# Altium schematic symbol library Sensor_Motion.SchLib: 29 symbols
Pins are listed as number, name and electrical type; pins without a type are passive.

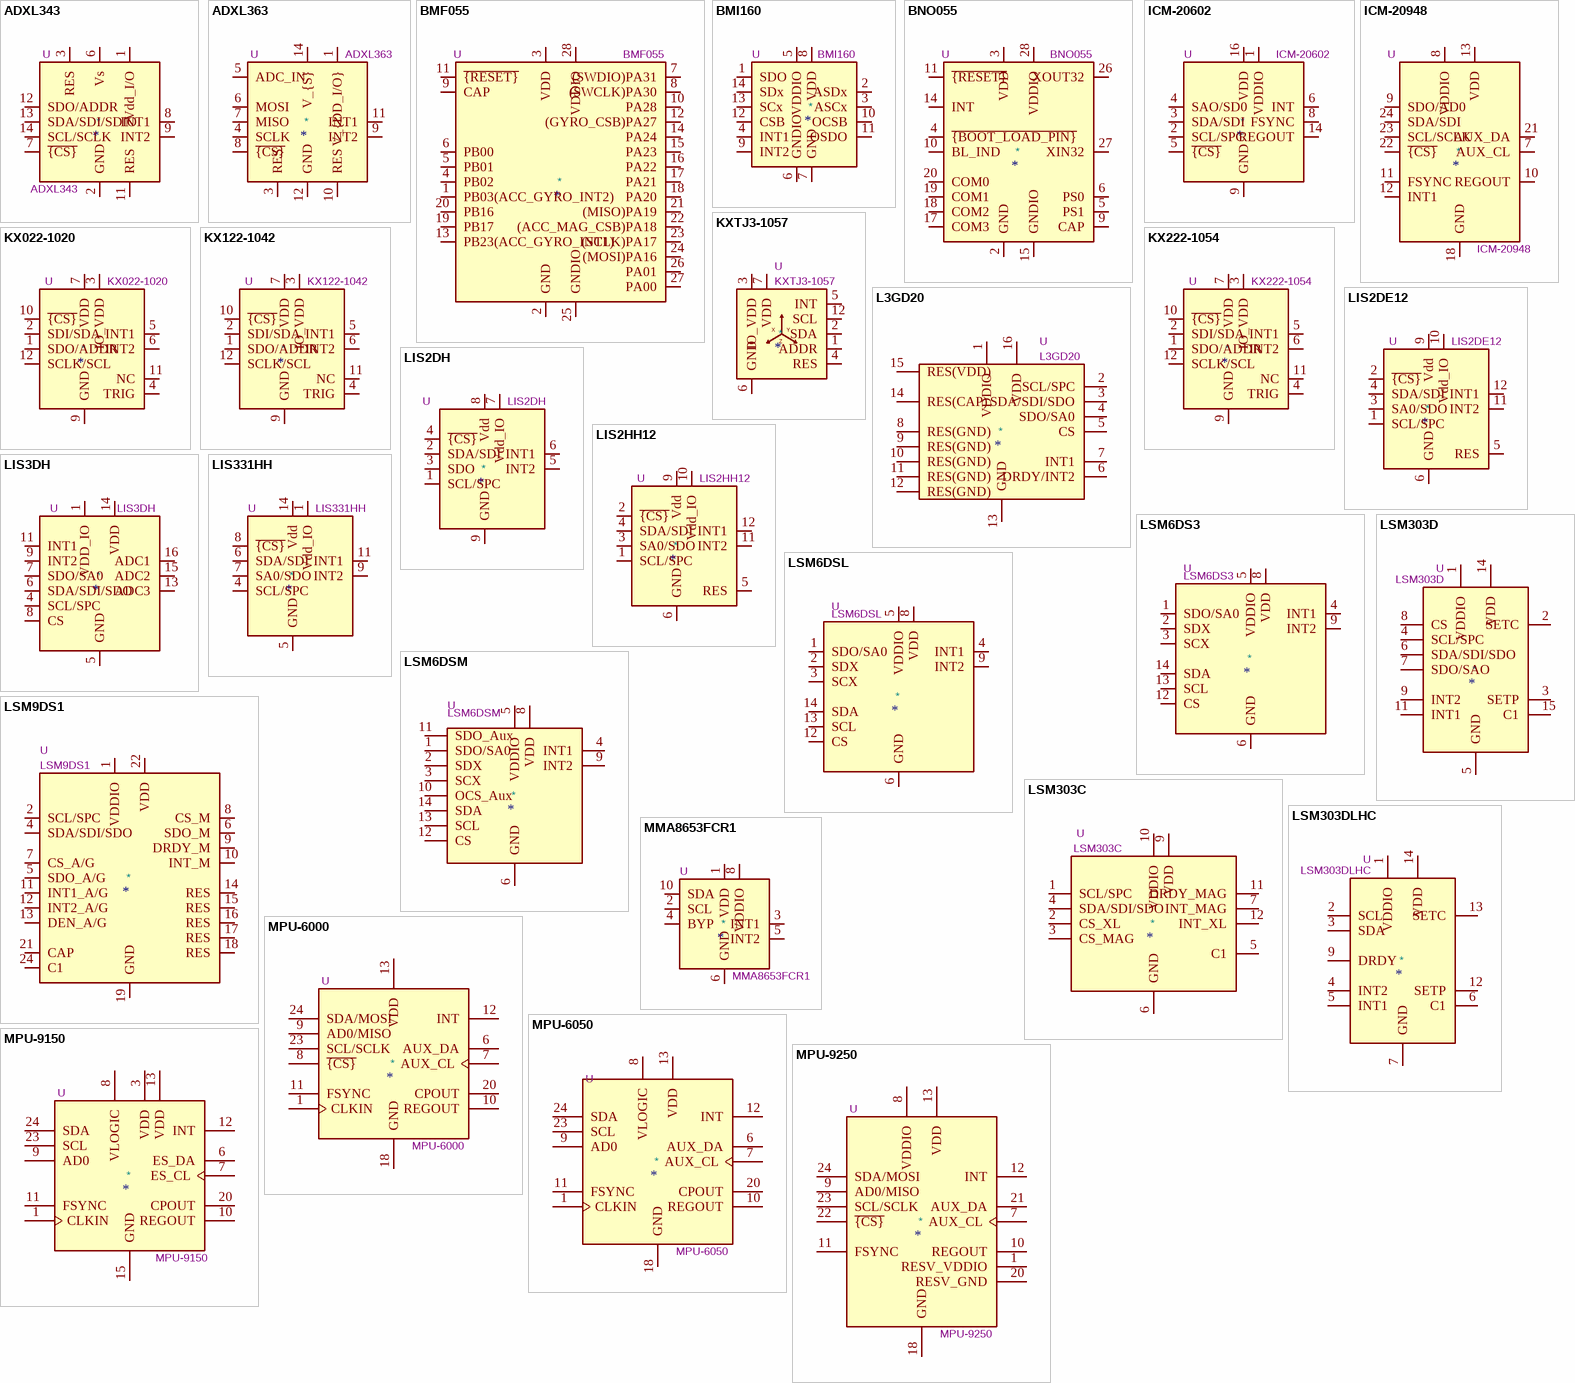
[diagram p0: symbols ADXL343 to MPU-9250]

## ADXL343
designator *  value ADXL343  Reference: U
ki_keywords: 3-axis accelerometer i2c spi mems; ki_description: 3-Axis MEMS Accelerometer, 2/4/8/16g range, I2C/SPI, LGA-14; ki_fp_filters: *LGA*3x5mm*P0.8mm*; Footprint: Package_LGA:LGA-14_3x5mm_P0.8mm_LayoutBorder1x6y; Datasheet: https://www.analog.com/media/en/technical-documentation/data-sheets/ADXL343.pdf
pins: 1 Vdd_I/O, 2 GND, 3 RES, 4 GND hidden, 5 GND hidden, 6 Vs, 7 ~{{CS}}, 8 INT1, 9 INT2, 10 NC hidden, 11 RES, 12 SDO/ADDR, 13 SDA/SDI/SDIO, 14 SCL/SCLK

## ADXL363
designator *  value ADXL363  Reference: U
ki_keywords: 3-axis accelerometer spi mems thermometer; ki_description: Micropower 3-Axis Accelerometer, Thermometer, 2/4/8g range, SPI, LGA-16; ki_fp_filters: *LGA?16*3.25x3mm*P0.5mm*LayoutBorder3x5y*; Footprint: Sensor_Motion:Analog_LGA-16_3.25x3mm_P0.5mm_LayoutBorder3x5y; Datasheet: https://www.analog.com/media/en/technical-documentation/data-sheets/ADXL363.pdf
pins: 1 V_{DD_I/O}, 3 RES, 4 SCLK, 5 ADC_IN, 6 MOSI, 7 MISO, 8 ~{{CS}}, 9 INT2, 10 RES, 11 INT1, 12 GND, 13 GND hidden, 14 V_{S}, 16 GND hidden

## BMF055
designator *  value BMF055  Reference: U
ki_keywords: 9-axis motion sensor IMU SAMD20 ARM Cortex-M0+; ki_description: Custom programmable 9-axis motion sensor; ki_fp_filters: LGA*5.2x3.8mm*P0.5mm*; Footprint: Package_LGA:LGA-28_5.2x3.8mm_P0.5mm; Datasheet: https://www.bosch-sensortec.com/media/boschsensortec/downloads/datasheets/bst-bmf055-ds000.pdf
pins: 1 PB03(ACC_GYRO_INT2), 2 GND, 3 VDD, 4 PB02, 5 PB01, 6 PB00, 7 (SWDIO)PA31, 8 (SWCLK)PA30, 9 CAP, 10 PA28, 11 ~{{RESET}}, 12 (GYRO_CSB)PA27, 13 PB23(ACC_GYRO_INT1), 14 PA24, 15 PA23, 16 PA22, 17 PA21, 18 PA20, 19 PB17, 20 PB16, 21 (MISO)PA19, 22 (ACC_MAG_CSB)PA18, 23 (SCLK)PA17, 24 (MOSI)PA16, 25 GNDIO, 26 PA01, 27 PA00, 28 VDDIO

## BMI160
designator *  value BMI160  Reference: U
ki_keywords: Bosh IMU small low power inertial measurement unit; ki_description: Small, low power inertial measurement unit, LGA-14; ki_fp_filters: Bosch*LGA*3x2.5mm*P0.5mm*; Footprint: Package_LGA:Bosch_LGA-14_3x2.5mm_P0.5mm; Datasheet: https://www.bosch-sensortec.com/media/boschsensortec/downloads/datasheets/bst-bmi160-ds000.pdf
pins: 1 SDO, 2 ASDx, 3 ASCx, 4 INT1, 5 VDDIO, 6 GNDIO, 7 GND, 8 VDD, 9 INT2, 10 OCSB, 11 OSDO, 12 CSB, 13 SCx, 14 SDx

## BNO055
designator *  value BNO055  Reference: U
ki_keywords: IMU Sensor Fusion I2C UART; ki_description: Intelligent 9-axis absolute orientation sensor, LGA-28; ki_fp_filters: LGA*5.2x3.8mm*P0.5mm*; Footprint: Package_LGA:LGA-28_5.2x3.8mm_P0.5mm; Datasheet: https://www.bosch-sensortec.com/media/boschsensortec/downloads/datasheets/bst-bno055-ds000.pdf
pins: 1 PIN1 hidden, 2 GND, 3 VDD, 4 ~{{BOOT_LOAD_PIN}}, 5 PS1, 6 PS0, 7 PIN7 hidden, 8 PIN8 hidden, 9 CAP, 10 BL_IND, 11 ~{{RESET}}, 12 PIN12 hidden, 13 PIN13 hidden, 14 INT, 15 GNDIO, 16 GNDIO hidden, 17 COM3, 18 COM2, 19 COM1, 20 COM0, 21 PIN21 hidden, 22 PIN22 hidden, 23 PIN23 hidden, 24 PIN24 hidden, 25 GNDIO hidden, 26 XOUT32, 27 XIN32, 28 VDDIO

## ICM-20602
designator *  value ICM-20602  Reference: U
ki_keywords: accelerometer gyro mems motion; ki_description: High performance 6-Axis MEMS motion tracking, SPI/I2C interface, LGA-16; ki_fp_filters: LGA*3x3mm*P0.5mm*; Footprint: Package_LGA:LGA-16_3x3mm_P0.5mm_LayoutBorder3x5y; Datasheet: http://www.invensense.com/wp-content/uploads/2016/10/DS-000176-ICM-20602-v1.0.pdf
pins: 1 VDDIO, 2 SCL/SPC, 3 SDA/SDI, 4 SAO/SD0, 5 ~{{CS}}, 6 INT, 7 RESV hidden, 8 FSYNC, 9 GND, 10 GND hidden, 11 GND hidden, 12 GND hidden, 13 GND hidden, 14 REGOUT, 15 GND hidden, 16 VDD

## ICM-20948
designator *  value ICM-20948  Reference: U
ki_keywords: mems magnetometer; ki_description: InvenSense 9-Axis Motion Sensor, Accelerometer, Gyroscope, Compass, I2C/SPI, QFN-24; ki_fp_filters: InvenSense?QFN*3x3mm*P0.4mm*; Footprint: Sensor_Motion:InvenSense_QFN-24_3x3mm_P0.4mm; Datasheet: http://www.invensense.com/wp-content/uploads/2016/06/DS-000189-ICM-20948-v1.3.pdf
pins: 1 NC hidden, 2 NC hidden, 3 NC hidden, 4 NC hidden, 5 NC hidden, 6 NC hidden, 7 AUX_CL, 8 VDDIO, 9 SDO/AD0, 10 REGOUT, 11 FSYNC, 12 INT1, 13 VDD, 14 NC hidden, 15 NC hidden, 16 NC hidden, 17 NC hidden, 18 GND, 19 RESV hidden, 20 GND hidden, 21 AUX_DA, 22 ~{{CS}}, 23 SCL/SCLK, 24 SDA/SDI

## KX022-1020
designator *  value KX022-1020  Reference: U
ki_keywords: 3-axis accelerometer spi i2c mems; ki_description: 3-Axis Accelerometer, 2/4/8g range, 256 byte buffer, I2C/SPI interface, LGA-12; ki_fp_filters: LGA?12*2x2mm*P0.5mm*; Footprint: Package_LGA:LGA-12_2x2mm_P0.5mm; Datasheet: https://kionixfs.azureedge.net/en/datasheet/KX022-1020%20Specifications%20Rev%2012.0.pdf
pins: 1 SDO/ADDR, 2 SDI/SDA, 3 IO_VDD, 4 TRIG, 5 INT1, 6 INT2, 7 VDD, 9 GND, 10 ~{{CS}}, 11 NC, 12 SCLK/SCL

## KX122-1042
designator *  value KX122-1042  Reference: U
ki_keywords: 3-axis accelerometer spi i2c mems; ki_description: 3-Axis Accelerometer, 2/4/8g range, 2048 byte buffer, I2C/SPI interface, LGA-12; ki_fp_filters: LGA*2x2mm*P0.5mm*; Footprint: Package_LGA:LGA-12_2x2mm_P0.5mm; Datasheet: http://kionixfs.kionix.com/en/datasheet/KX112-1042-Specifications-Rev-6.0.pdf
pins: 1 SDO/ADDR, 2 SDI/SDA, 3 IO_VDD, 4 TRIG, 5 INT1, 6 INT2, 7 VDD, 9 GND, 10 ~{{CS}}, 11 NC, 12 SCLK/SCL

## KX222-1054
designator *  value KX222-1054  Reference: U
ki_keywords: 3-axis accelerometer spi i2c mems; ki_description: 3-Axis Accelerometer, 8/16/32g range, 2048 byte buffer, I2C/SPI interface, LGA-12; ki_fp_filters: LGA*2x2mm*P0.5mm*; Footprint: Package_LGA:LGA-12_2x2mm_P0.5mm; Datasheet: http://kionixfs.kionix.com/en/datasheet/KX222-1054-Specifications-Rev-2.0.pdf
pins: 1 SDO/ADDR, 2 SDI/SDA, 3 IO_VDD, 4 TRIG, 5 INT1, 6 INT2, 7 VDD, 9 GND, 10 ~{{CS}}, 11 NC, 12 SCLK/SCL

## KXTJ3-1057
designator *  value KXTJ3-1057  Reference: U
ki_keywords: accelerometer tri-axis i2c; ki_description: ±2g / 4g / 8g / 16g Tri-Axis Digital Accelerometer, I2C, 1.71-3.6V, LGA-12; ki_fp_filters: Kionix*LGA*2x2mm*P0.5mm*; Footprint: Package_LGA:Kionix_LGA-12_2x2mm_P0.5mm_LayoutBorder2x4y; Datasheet: https://kionixfs.azureedge.net/en/datasheet/KXTJ3-1057-Specifications-Rev-5.0.pdf
pins: 1 ADDR, 2 SDA, 3 IO_VDD, 4 RES, 5 INT, 6 GND, 7 VDD, 8 GND hidden, 9 GND hidden, 10 VDD hidden, 11 IO_VDD hidden, 12 SCL
text: X; Y; Z

## L3GD20
designator *  value L3GD20  Reference: U
ki_keywords: 3-Axis MEMS Gyroscope; ki_description: [Not recommended for new designs] 16-bit 3 Axis Digital MEMS Gyroscope, LGA-16; ki_fp_filters: LGA*4x4mm*P0.65mm*LayoutBorder4x4y*; Footprint: Package_LGA:LGA-16_4x4mm_P0.65mm_LayoutBorder4x4y; Datasheet: http://www.st.com/st-web-ui/static/active/en/resource/technical/document/datasheet/DM00036465.pdf
pins: 1 VDDIO, 2 SCL/SPC, 3 SDA/SDI/SDO, 4 SDO/SA0, 5 CS, 6 DRDY/INT2, 7 INT1, 8 RES(GND), 9 RES(GND), 10 RES(GND), 11 RES(GND), 12 RES(GND), 13 GND, 14 RES(CAP), 15 RES(VDD), 16 VDD

## LIS2DE12
designator *  value LIS2DE12  Reference: U
ki_keywords: 3-axis accelerometer spi mems; ki_description: 3-Axis Accelerometer, 2/4/8/16g range, I2C/SPI interface; ki_fp_filters: LGA*2x2mm*P0.5mm*; Footprint: Package_LGA:LGA-12_2x2mm_P0.5mm; Datasheet: https://www.st.com/resource/en/datasheet/lis2DE12.pdf
pins: 1 SCL/SPC, 2 ~{{CS}}, 3 SA0/SDO, 4 SDA/SDI, 5 RES, 6 GND, 7 GND hidden, 8 GND hidden, 9 Vdd, 10 Vdd_IO, 11 INT2, 12 INT1

## LIS2DH
designator *  value LIS2DH  Reference: U
ki_keywords: 3-axis accelerometer spi mems LGA-14; ki_description: 3-Axis Accelerometer, 2/4/8/16g range, I2C/SPI interface, LGA-14; ki_fp_filters: LGA*2x2mm*P0.35mm*LayoutBorder3x4y*; Footprint: Package_LGA:LGA-14_2x2mm_P0.35mm_LayoutBorder3x4y; Datasheet: http://www.st.com/web/en/resource/technical/document/datasheet/DM00042751.pdf
pins: 1 SCL/SPC, 2 SDA/SDI, 3 SDO, 4 ~{{CS}}, 5 INT2, 6 INT1, 7 Vdd_IO, 8 Vdd, 9 GND, 10 GND hidden, 11 GND hidden, 12 GND hidden, 13 GND hidden, 14 GND hidden

## LIS2HH12
designator *  value LIS2HH12  Reference: U
ki_keywords: 3-axis accelerometer spi mems; ki_description: 3-Axis Accelerometer, 2/4/8g range, I2C/SPI interface; ki_fp_filters: LGA*2x2mm*P0.5mm*; Footprint: Package_LGA:LGA-12_2x2mm_P0.5mm; Datasheet: www.st.com/resource/en/datasheet/lis2hh12.pdf
pins: 1 SCL/SPC, 2 ~{{CS}}, 3 SA0/SDO, 4 SDA/SDI, 5 RES, 6 GND, 7 GND hidden, 8 GND hidden, 9 Vdd, 10 Vdd_IO, 11 INT2, 12 INT1

## LIS3DH
designator *  value LIS3DH  Reference: U
ki_keywords: 3-axis accelerometer i2c spi mems; ki_description: 3-Axis Accelerometer, 2/4/8/16g range, I2C/SPI interface, LGA-16; ki_fp_filters: LGA*3x3mm*P0.5mm*LayoutBorder3x5y*; Footprint: Package_LGA:LGA-16_3x3mm_P0.5mm_LayoutBorder3x5y; Datasheet: https://www.st.com/resource/en/datasheet/cd00274221.pdf
pins: 1 VDD_IO, 2 NC hidden, 3 NC hidden, 4 SCL/SPC, 5 GND, 6 SDA/SDI/SDO, 7 SDO/SA0, 8 CS, 9 INT2, 10 GND hidden, 11 INT1, 12 GND hidden, 13 ADC3, 14 VDD, 15 ADC2, 16 ADC1

## LIS331HH
designator *  value LIS331HH  Reference: U
ki_keywords: 3-axis accelerometer spi i2c mems; ki_description: 3-Axis Accelerometer, 6/12/24g range, 1000Hz, I2C and SPI interface; ki_fp_filters: LGA*3x3mm*P0.5mm*LayoutBorder3x5y*; Footprint: Package_LGA:LGA-16_3x3mm_P0.5mm_LayoutBorder3x5y; Datasheet: https://media.digikey.com/pdf/Data%20Sheets/ST%20Microelectronics%20PDFS/LIS331HH.pdf
pins: 1 Vdd_IO, 2 NC hidden, 3 NC hidden, 4 SCL/SPC, 5 GND, 6 SDA/SDI, 7 SA0/SDO, 8 ~{{CS}}, 9 INT2, 10 GND hidden, 11 INT1, 12 GND hidden, 13 GND hidden, 14 Vdd, 15 Vdd hidden, 16 GND hidden

## LSM6DS3
designator *  value LSM6DS3  Reference: U
ki_keywords: Accelerometer Gyroscope MEMS; ki_description: I2C/SPI, iNEMO inertial module: always-on 3D accelerometer and 3D gyroscope; ki_fp_filters: LGA*3x2.5mm*P0.5mm*LayoutBorder3x4y*; Footprint: Package_LGA:LGA-14_3x2.5mm_P0.5mm_LayoutBorder3x4y; Datasheet: https://www.st.com/resource/en/datasheet/lsm6ds3tr-c.pdf
pins: 1 SDO/SA0, 2 SDX, 3 SCX, 4 INT1, 5 VDDIO, 6 GND, 7 GND hidden, 8 VDD, 9 INT2, 10 NC hidden, 11 NC hidden, 12 CS, 13 SCL, 14 SDA

## LSM6DSL
designator *  value LSM6DSL  Reference: U
ki_keywords: Accelerometer Gyroscope MEMS; ki_description: I2C/SPI, iNEMO inertial module: always-on 3D accelerometer and 3D gyroscope, 1.71V to 3.6V VCC; ki_fp_filters: LGA*3x2.5mm*P0.5mm*LayoutBorder3x4y*; Footprint: Package_LGA:LGA-14_3x2.5mm_P0.5mm_LayoutBorder3x4y; Datasheet: https://www.st.com/resource/en/datasheet/lsm6dsl.pdf
pins: 1 SDO/SA0, 2 SDX, 3 SCX, 4 INT1, 5 VDDIO, 6 GND, 7 GND hidden, 8 VDD, 9 INT2, 10 NC hidden, 11 NC hidden, 12 CS, 13 SCL, 14 SDA

## LSM6DSM
designator *  value LSM6DSM  Reference: U
ki_keywords: Accelerometer Gyroscope MEMS; ki_description: I2C/SPI, iNEMO inertial module: always-on 3D accelerometer and 3D gyroscope, with auxiliary SPI, 1.71V to 3.6V VCC; ki_fp_filters: LGA*3x2.5mm*P0.5mm*LayoutBorder3x4y*; Footprint: Package_LGA:LGA-14_3x2.5mm_P0.5mm_LayoutBorder3x4y; Datasheet: https://www.st.com/resource/en/datasheet/lsm6dsm.pdf
pins: 1 SDO/SA0, 2 SDX, 3 SCX, 4 INT1, 5 VDDIO, 6 GND, 7 GND hidden, 8 VDD, 9 INT2, 10 OCS_Aux, 11 SDO_Aux, 12 CS, 13 SCL, 14 SDA

## LSM9DS1
designator *  value LSM9DS1  Reference: U
ki_keywords: I2C SPI IMU accelerometer gyroscope magnetometer; ki_description: I2C SPI 9 axis IMU accelerometer gyroscope magnetometer; ki_fp_filters: LGA*3x3.5mm*P0.43mm*; Footprint: Package_LGA:LGA-24L_3x3.5mm_P0.43mm; Datasheet: https://www.digikey.com/htmldatasheets/production/1639232/0/0/1/LSM9DS1-Datasheet.pdf
pins: 1 VDDIO, 2 SCL/SPC, 3 VDDIO hidden, 4 SDA/SDI/SDO, 5 SDO_A/G, 6 SDO_M, 7 CS_A/G, 8 CS_M, 9 DRDY_M, 10 INT_M, 11 INT1_A/G, 12 INT2_A/G, 13 DEN_A/G, 14 RES, 15 RES, 16 RES, 17 RES, 18 RES, 19 GND, 20 GND hidden, 21 CAP, 22 VDD, 23 VDD hidden, 24 C1

## LSM303C
designator *  value LSM303C  Reference: U
ki_keywords: Accelerometer Magnetometer MEMS; ki_description: I2C/SPI, 3D Accelerometer and 3D Magnetometer; ki_fp_filters: LGA*2x2mm*P0.5mm*; Footprint: Package_LGA:LGA-12_2x2mm_P0.5mm; Datasheet: www.st.com/resource/en/datasheet/lsm303c.pdf
pins: 1 SCL/SPC, 2 CS_XL, 3 CS_MAG, 4 SDA/SDI/SDO, 5 C1, 6 GND, 7 INT_MAG, 8 GND hidden, 9 VDD, 10 VDDIO, 11 DRDY_MAG, 12 INT_XL

## LSM303D
designator *  value LSM303D  Reference: U
ki_keywords: Accelerometer Magnetometer MEMS; ki_description: [not recommended for new designs] I2C/SPI, 3D Accelerometer and 3D Magnetometer; ki_fp_filters: LGA*; Footprint: Package_LGA:LGA-16_3x3mm_P0.5mm; Datasheet: http://www.st.com/web/en/resource/technical/document/datasheet/DM00057547.pdf
pins: 1 VDDIO, 2 SETC, 3 SETP, 4 SCL/SPC, 5 GND, 6 SDA/SDI/SDO, 7 SDO/SAO, 8 CS, 9 INT2, 10 GND hidden, 11 INT1, 12 GND hidden, 13 GND hidden, 14 VDD, 15 C1, 16 GND hidden

## LSM303DLHC
designator *  value LSM303DLHC  Reference: U
ki_keywords: Accelerometer Magnetometer MEMS; ki_description: [not recommended for new designs] I2C, 3D Accelerometer and 3D Magnetometer; ki_fp_filters: LGA*3x5mm*P0.8mm*LayoutBorder1x6y*; Footprint: Package_LGA:LGA-14_3x5mm_P0.8mm_LayoutBorder1x6y; Datasheet: http://www.st.com/web/en/resource/technical/document/datasheet/DM00027543.pdf
pins: 1 VDDIO, 2 SCL, 3 SDA, 4 INT2, 5 INT1, 6 C1, 7 GND, 8 NC hidden, 9 DRDY, 10 GND hidden, 11 GND hidden, 12 SETP, 13 SETC, 14 VDD

## MMA8653FCR1
designator *  value MMA8653FCR1  Reference: U
ki_keywords: Accelerometer I2C; ki_description: 3-Axis 10-bit Digital Accelerometer with I2C interface; ki_fp_filters: DFN*2x2mm*P0.4mm*; Footprint: Package_DFN_QFN:DFN-10_2x2mm_P0.4mm; Datasheet: https://www.nxp.com/docs/en/data-sheet/MMA8653FC.pdf
pins: 1 VDD, 2 SCL, 3 INT1, 4 BYP, 5 INT2, 6 GND, 7 GND hidden, 8 VDDIO, 9 GND hidden, 10 SDA

## MPU-6000
designator *  value MPU-6000  Reference: U
ki_keywords: mems; ki_description: InvenSense 6-Axis Motion Sensor, Gyroscope, Accelerometer, I2C/SPI; ki_fp_filters: *QFN?24*4x4mm*P0.5mm*; Footprint: Sensor_Motion:InvenSense_QFN-24_4x4mm_P0.5mm; Datasheet: https://invensense.tdk.com/wp-content/uploads/2015/02/MPU-6000-Datasheet1.pdf
pins: 1 CLKIN, 6 AUX_DA, 7 AUX_CL, 8 ~{{CS}}, 9 AD0/MISO, 10 REGOUT, 11 FSYNC, 12 INT, 13 VDD, 18 GND, 20 CPOUT, 23 SCL/SCLK, 24 SDA/MOSI

## MPU-6050
designator *  value MPU-6050  Reference: U
ki_keywords: mems; ki_description: InvenSense 6-Axis Motion Sensor, Gyroscope, Accelerometer, I2C; ki_fp_filters: *QFN*4x4mm*P0.5mm*; Footprint: Sensor_Motion:InvenSense_QFN-24_4x4mm_P0.5mm; Datasheet: https://invensense.tdk.com/wp-content/uploads/2015/02/MPU-6000-Datasheet1.pdf
pins: 1 CLKIN, 2 NC hidden, 3 NC hidden, 4 NC hidden, 5 NC hidden, 6 AUX_DA, 7 AUX_CL, 8 VLOGIC, 9 AD0, 10 REGOUT, 11 FSYNC, 12 INT, 13 VDD, 14 NC hidden, 15 NC hidden, 16 NC hidden, 17 NC hidden, 18 GND, 19 RESV hidden, 20 CPOUT, 21 RESV hidden, 22 RESV hidden, 23 SCL, 24 SDA

## MPU-9150
designator *  value MPU-9150  Reference: U
ki_keywords: mems magnetometer accelerometer gyroscope; ki_description: InvenSense 9-Axis Motion Sensor, Accelerometer, Gyroscope, Compass, I2C; ki_fp_filters: *QFN?24*4x4mm*P0.5mm*; Footprint: Sensor_Motion:InvenSense_QFN-24_4x4mm_P0.5mm; Datasheet: https://www.invensense.com/wp-content/uploads/2015/02/MPU-9150-Datasheet.pdf
pins: 1 CLKIN, 3 VDD, 6 ES_DA, 7 ES_CL, 8 VLOGIC, 9 AD0, 10 REGOUT, 11 FSYNC, 12 INT, 13 VDD, 15 GND, 17 GND hidden, 18 GND hidden, 20 CPOUT, 23 SCL, 24 SDA

## MPU-9250
designator *  value MPU-9250  Reference: U
ki_keywords: mems magnetometer; ki_description: InvenSense 9-Axis Motion Sensor, Accelerometer, Gyroscope, Compass, I2C/SPI; ki_fp_filters: *QFN?24*3x3mm*P0.4mm*; Footprint: Sensor_Motion:InvenSense_QFN-24_3x3mm_P0.4mm; Datasheet: https://invensense.tdk.com/wp-content/uploads/2015/02/PS-MPU-9250A-01-v1.1.pdf
pins: 1 RESV_VDDIO, 7 AUX_CL, 8 VDDIO, 9 AD0/MISO, 10 REGOUT, 11 FSYNC, 12 INT, 13 VDD, 18 GND, 20 RESV_GND, 21 AUX_DA, 22 ~{{CS}}, 23 SCL/SCLK, 24 SDA/MOSI